# EAGLE library part ISP-M (library FPV-Auto)
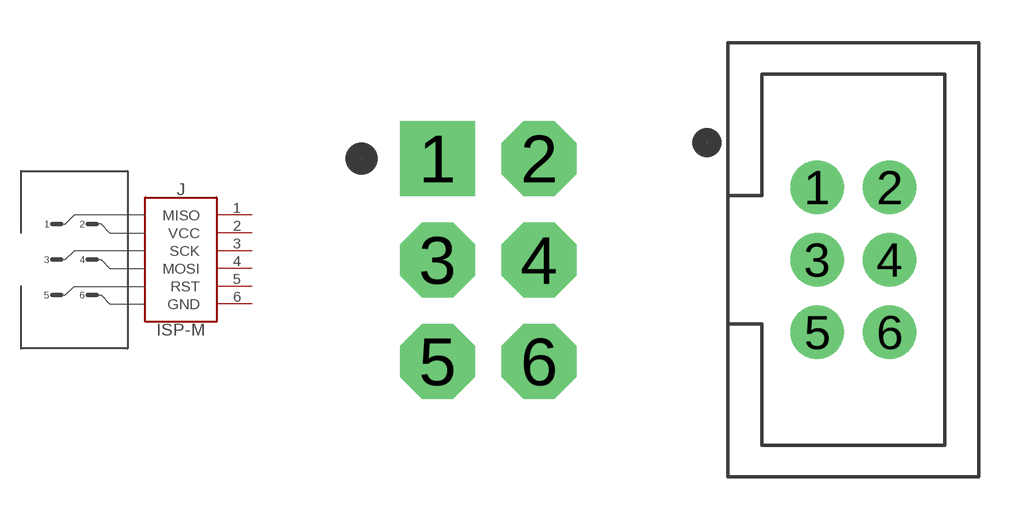
[diagram p7: symbol with the pads of MPE_087-2-006; footprints MPE_087-2-006, ISP-M-THT]

Designator prefix J

## ISP-M (OC_REICHELT: MPE 087-2-006)  [MPE_087-2-006]
1  MISO
2  VCC  pwr
3  SCK
4  MOSI
5  RST
6  GND  pwr

## ISP-M_WSL  [ISP-M-THT]
Pads as for MPE_087-2-006

## ISP-M_EDGE  [ISP-M-EDGE]
Pads as for MPE_087-2-006

## ISP-M_TP  [ISP-M_TP]
Pads as for MPE_087-2-006

## Footprint MPE_087-2-006 (pad centres in mm)
drill 1.016 pad 1.88 square: 1 0,0
drill 1.016 pad 1.88 octagon: 2 2.54,0; 3 0,-2.54; 4 2.54,-2.54; 5 0,-5.08; 6 2.54,-5.08

## Footprint ISP-M-THT (pad centres in mm)
drill 1.016 pad 1.88: 1 0,0; 2 2.54,0; 3 0,-2.54; 4 2.54,-2.54; 5 0,-5.08; 6 2.54,-5.08

## Footprint ISP-M-EDGE (pad centres in mm)
smd 3.6 x 1.3 bottom: 1 2.184,2.54; 3 2.184,0; 5 2.184,-2.54
smd 3.6 x 1.3: 2 2.184,2.54; 4 2.184,0; 6 2.184,-2.54

## Footprint ISP-M_TP (pad centres in mm)
smd 1.8 x 1.8: 1 0,0; 2 2.54,0; 3 0,-2.54; 4 2.54,-2.54; 5 0,-5.08; 6 2.54,-5.08